# Altium schematic symbol library LTC4365ITS8-1#TRMPBF.SchLib: 1 symbol
Pins are listed as number, name and electrical type; pins without a type are passive.

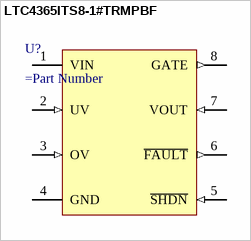
[diagram p0: symbol LTC4365ITS8-1#TRMPBF]

## LTC4365ITS8-1#TRMPBF
designator U?
=Description
pins: 1 VIN (power), 2 UV (in), 3 OV (in), 4 GND (power), 5 ~{SHDN} (in), 6 ~{FAULT} (out), 7 VOUT (in), 8 GATE (out)